# Altium schematic symbol library BC546BTF.SchLib: 2 symbols
Pins are listed as number, name and electrical type; pins without a type are passive.

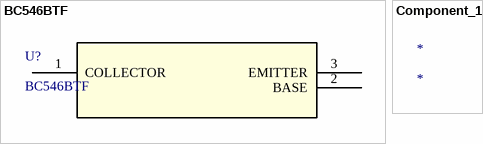
[diagram p0: symbols BC546BTF to Component_1]

## BC546BTF
designator U?
No Description Available; Mfr_Name: onsemi; Copyright: Copyright (C) 2022 Ultra Librarian. All rights reserved.; Manufacturer_Part_Number: BC546BTF; Digi-Key_Part_Number_1: BC546BTFTR-ND; Digi-Key_Part_Number_2: BC546BTFCT-ND; Digi-Key_Part_Number_3: 2156-BC546BTF-OS-ND; RefDes: RefDes; Type: DEV
footprint TO-92-3L_5P33X5P2_ONS
pins: 1 COLLECTOR, 2 BASE, 3 EMITTER

## Component_1
designator *